# EAGLE library part MC14538B (library on-semi)
Monostable Multivibrator
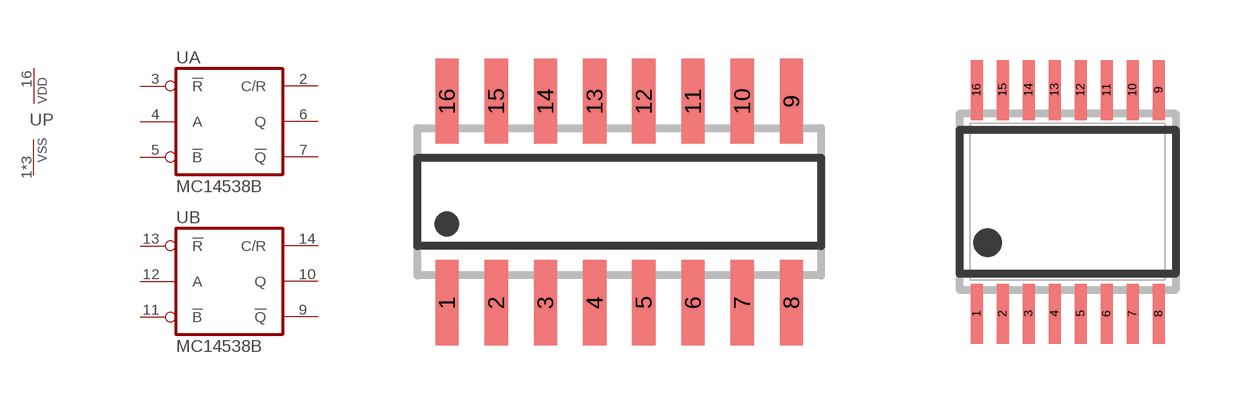
[diagram p5: symbol with the pads of SO16; footprints SO16, TSSOP16]

Designator prefix U; gates A=MC14538B B=MC14538B P=PWRN_VDDVSS

## MC14538BD  [SO16]
1  P:VSS  pwr
2  A:C/R  in
3  A:!R!  in
4  A:A  in
5  A:!B!  in
6  A:Q  out
7  A:!Q!  out
8  P:VSS  pwr
9  B:!Q!  out
10  B:Q  out
11  B:!B!  in
12  B:A  in
13  B:!R!  in
14  B:C/R  in
15  P:VSS  pwr
16  P:VDD  pwr

## MC14538BDT  [TSSOP16]
Pads as for SO16

## Footprint SO16 (pad centres in mm)
SMALL OUTLINE INTEGRATED CIRCUIT body 3.9 mm/JEDEC MS-012AC
smd 0.6 x 2.2: 1 -4.445,-2.6; 2 -3.175,-2.6; 3 -1.905,-2.6; 4 -0.635,-2.6; 5 0.635,-2.6; 6 1.905,-2.6; 7 3.175,-2.6; 8 4.445,-2.6; 9 4.445,2.6; 10 3.175,2.6; 11 1.905,2.6; 12 0.635,2.6; 13 -0.635,2.6; 14 -1.905,2.6; 15 -3.175,2.6; 16 -4.445,2.6

## Footprint TSSOP16 (pad centres in mm)
Thin Shrink Small Outline Plastic 16 body 4.5 x 4.9 mm
smd 0.3 x 1.5: 1 -2.275,-2.8; 2 -1.625,-2.8; 3 -0.975,-2.8; 4 -0.325,-2.8; 5 0.325,-2.8; 6 0.975,-2.8; 7 1.625,-2.8; 8 2.275,-2.8; 9 2.275,2.8; 10 1.625,2.8; 11 0.975,2.8; 12 0.325,2.8; 13 -0.325,2.8; 14 -0.975,2.8; 15 -1.625,2.8; 16 -2.275,2.8